# Altium footprint library WE-LANMX.PcbLib: 1 footprints
Each footprint in its own frame and in the unit in brackets; x right, y up, seen from the top. Pads: shape width x height; smd on the part's side, far side on the other; paste and mask are expansions set on the pad; w line width, h text height; cw(c..) or ccw(c..) is an arc to the next point about the centre after c.
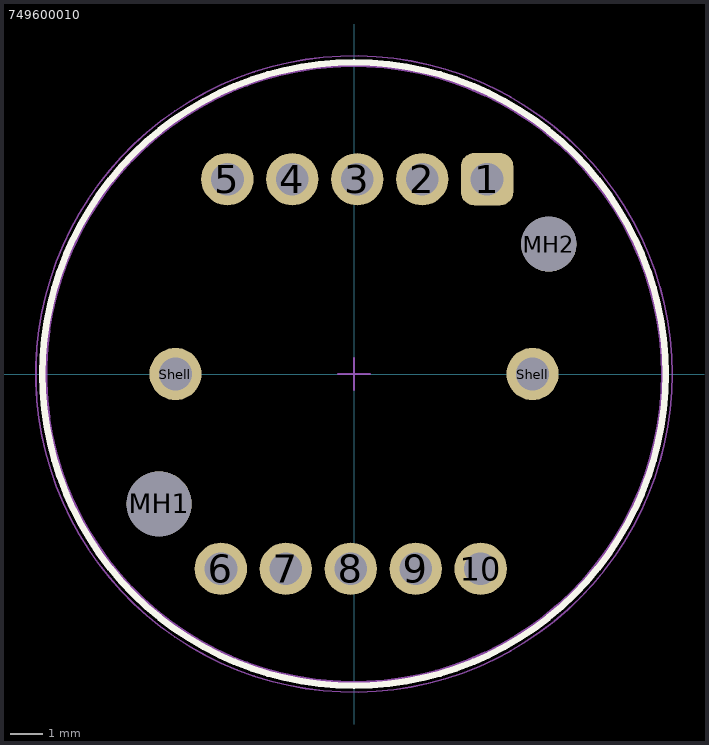
[diagram p0: the footprint, top view; thin cyan lines are the x and y axes]

## 749600010 [mm] "M12 D Vertical"
height 26.5
pads (14):
  rrect50% 1.61x1.61 hole 1.01: 1(4.1,6)
  round 1.61 hole 1.01: 2(2.1,6) 3(0.1,6) 4(-1.9,6) 5(-3.9,6) 6(-4.1,-6) 7(-2.1,-6) 8(-0.1,-6) 9(1.9,-6) 10(3.9,-6) Shell(-5.5,0) Shell(5.5,0)
  round 2 hole 2 unplated: MH1(-6,-4)
  round 1.7 hole 1.7 unplated: MH2(6,4)
Top Overlay:
  circle w0.2: c0,0 r9.6
Top Paste:
  region: -7.1,0.8 -3.9,0.8 -3.9,-0.8 -7.1,-0.8
  region: 3.9,0.8 7.1,0.8 7.1,-0.8 3.9,-0.8
  region: -4.7,7.6 -3.1,7.6 -3.1,4.4 -4.7,4.4
  region: -2.7,7.6 -1.1,7.6 -1.1,4.4 -2.7,4.4
  region: -0.7,7.6 0.9,7.6 0.9,4.4 -0.7,4.4
  region: 1.3,7.6 2.9,7.6 2.9,4.4 1.3,4.4
  region: 3.3,7.6 4.9,7.6 4.9,4.4 3.3,4.4
  region: -4.9,-4.4 -3.3,-4.4 -3.3,-7.6 -4.9,-7.6
  region: -2.9,-4.4 -1.3,-4.4 -1.3,-7.6 -2.9,-7.6
  region: -0.9,-4.4 0.7,-4.4 0.7,-7.6 -0.9,-7.6
  region: 1.1,-4.4 2.7,-4.4 2.7,-7.6 1.1,-7.6
  region: 3.1,-4.4 4.7,-4.4 4.7,-7.6 3.1,-7.6
Notes:
  text "PCB Thickness=1.6mm / Stencil Thickness=0.15mm" at -7.1,-12.2 h0.8
Top Designator:
  text ".Designator" at -7.498,-0.5 h1.5
Top Component Outline:
  circle w0.1: c0,0 r9.5
Top Courtyard:
  circle w0.05: c0,0 r9.8
  lines w0.05: -0.5,0 0.5,0 ; 0,-0.5 0,0.5
3D body "749600010.stp": height 26.56, standoff -2.21, extent -9.5,-9.5 9.5,9.5